# EAGLE library part 6120XX235221_612040235221 (library WR-BHD)
WR-BHD 2.54 mm Male Characteristics Working Voltage: 250 V UL approval: E323964 UL94-V0 Applications Industrial Production lines Details see: www.we-online.com/components/products/WTB_WR_BHD_BOX_HEADER_2_54MM_MALE_PCB Updated by Ella 2026-09-16 2026 (C) Würth Elektronik
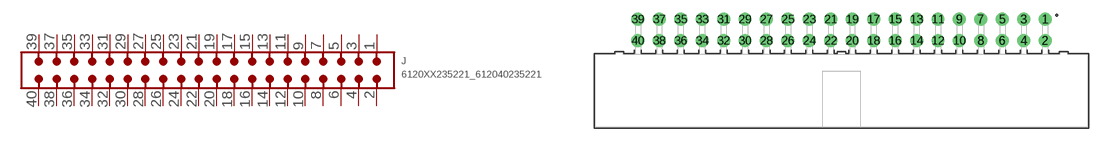
[diagram p95: symbol with the pads of 612040235221; footprint 612040235221]

Designator prefix J

## 6120XX235221_612040235221 (CATEGORY: Connectors; DATASHEET: https://www.we-online.com/redexpert/spec/612040235221?ae; GENDER: Male; LENGTH: 58.4 mm; MANUFACTURER: Würth Elektronik; MOUNT: THT; MPN: 612040235221; OPERATING_TEMPERATURE: -40 °C up to +125 °C; PACKAGING: Tray; PINS: 40; PITCH: 2.54mm; RATED_CURRENT: 3 A; SIZE: THT Angled - High Temperature; TYPE: Angled; VALUE: 612040235221; VERSION: Low Profile)  [612040235221]
1  1  pas
2  2  pas
3  3  pas
4  4  pas
5  5  pas
6  6  pas
7  7  pas
8  8  pas
9  9  pas
10  10  pas
11  11  pas
12  12  pas
13  13  pas
14  14  pas
15  15  pas
16  16  pas
17  17  pas
18  18  pas
19  19  pas
20  20  pas
21  21  pas
22  22  pas
23  23  pas
24  24  pas
25  25  pas
26  26  pas
27  27  pas
28  28  pas
29  29  pas
30  30  pas
31  31  pas
32  32  pas
33  33  pas
34  34  pas
35  35  pas
36  36  pas
37  37  pas
38  38  pas
39  39  pas
40  40  pas

## Footprint 612040235221 (pad centres in mm)
WR-BHD Wire-to-Board Connectors, 2.54mm, Male, THT Angled - High Temperature, 40pins
drill 1.02: 1 24.13,8.54; 2 24.13,6; 3 21.59,8.54; 4 21.59,6; 5 19.05,8.54; 6 19.05,6; 7 16.51,8.54; 8 16.51,6; 9 13.97,8.54; 10 13.97,6; 11 11.43,8.54; 12 11.43,6; 13 8.89,8.54; 14 8.89,6; 15 6.35,8.54; 16 6.35,6; 17 3.81,8.54; 18 3.81,6; 19 1.27,8.54; 20 1.27,6; 21 -1.27,8.54; 22 -1.27,6; 23 -3.81,8.54; 24 -3.81,6; 25 -6.35,8.54; 26 -6.35,6; 27 -8.89,8.54; 28 -8.89,6; 29 -11.43,8.54; 30 -11.43,6; 31 -13.97,8.54; 32 -13.97,6; 33 -16.51,8.54; 34 -16.51,6; 35 -19.05,8.54; 36 -19.05,6; 37 -21.59,8.54; 38 -21.59,6; 39 -24.13,8.54; 40 -24.13,6